# EAGLE library part PMIC-AIC1896CG (library IC)
1. 4MHz Thin Package Current-Mode Step-Up DC/DC Converter
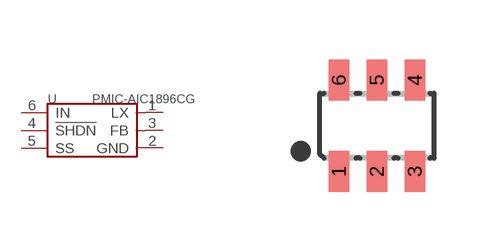
[diagram p21: symbol with the pads of SOT23-6; footprint SOT23-6]

Designator prefix U

## PMIC-AIC1896CG-310030104  [SOT23-6]
1  LX  out
2  GND  pwr
3  FB  in
4  !SHDN  in
5  SS  in
6  IN  in

## Footprint SOT23-6 (pad centres in mm)
smd 0.508 x 1.016: 1 -0.95,-1.143; 2 0,-1.143; 3 0.95,-1.143; 4 0.95,1.143; 5 0,1.143; 6 -0.95,1.143